# Altium footprint library DO-219AB.PcbLib: 1 footprints
Each footprint in its own frame and in the unit in brackets; x right, y up, seen from the top. Pads: shape width x height; smd on the part's side, far side on the other; paste and mask are expansions set on the pad; w line width, h text height; cw(c..) or ccw(c..) is an arc to the next point about the centre after c.
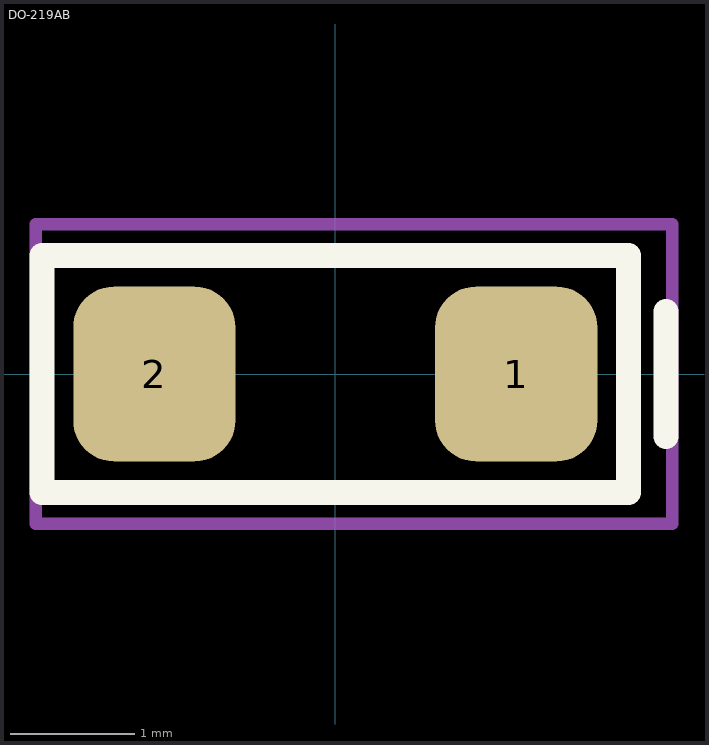
[diagram p0: the footprint, top view; thin cyan lines are the x and y axes]

## DO-219AB [mm]
pads (2):
  rrect50% 1.3x1.4 smd: 1(1.45,0) 2(-1.45,0)
Top Overlay:
  lines w0.2: 2.65,-0.5 2.65,0.5 ; -2.35,-0.95 2.35,-0.95 2.35,0.95 -2.35,0.95 -2.35,-0.95
Top Courtyard:
  lines w0.1: -2.4,-1.2 -2.4,1.2 2.7,1.2 2.7,-1.2 -2.4,-1.2
3D body "SL03-GS08--3DModel-STEP-510211.STEP": height 1.08, standoff 0, extent -1.85,-0.9 1.85,0.9